# Altium schematic symbol library SCH_lib.SchLib: 10 symbols
Pins are listed as number, name and electrical type; pins without a type are passive.

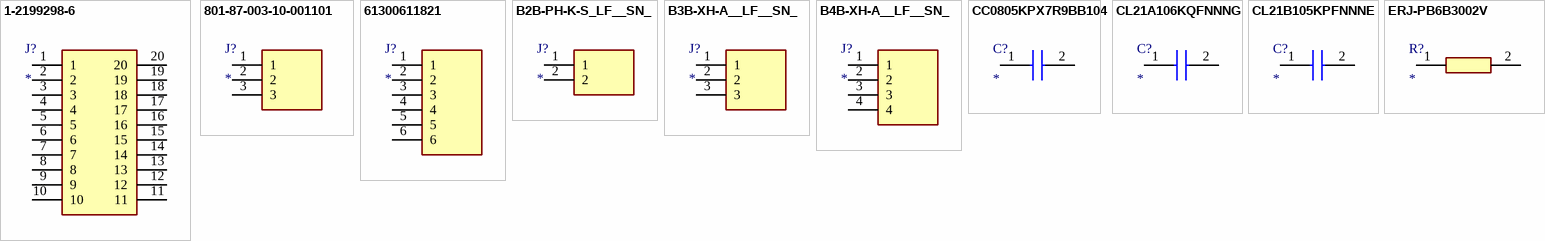
[diagram p0: symbols 1-2199298-6 to ERJ-PB6B3002V]

## 1-2199298-6
designator J?
Connector; Manufacturer_Name: TE Connectivity; Manufacturer_Part_Number: 1-2199298-6; Description: TE Connectivity 2.54mm Pitch Straight 20 Way; Datasheet Link: https://www.te.com/commerce/DocumentDelivery/DDEController?Action=showdoc&DocId=Customer+Drawing%7F2199298%7FA%7Fpdf%7FEnglish%7FENG_CD_2199298_A_baseFilename.pdf%7F1-2199298-6; Height: 5.1mm; Mouser Part Number: 571-1-2199298-6; Mouser Price/Stock: https://www.mouser.co.uk/ProductDetail/TE-Connectivity/1-2199298-6?qs=fK8dlpkaUMvuMXpJTs4GlA%3D%3D; Arrow Part Number: 1-2199298-6; Arrow Price/Stock: https://www.arrow.com/en/products/1-2199298-6/te-connectivity?region=europe
footprint DIPS762W70P254L2540H510Q20N
pins: 1, 2, 3, 4, 5, 6, 7, 8, 9, 10, 11, 12, 13, 14, 15, 16, 17, 18, 19, 20

## 801-87-003-10-001101
designator J?
Connector; Manufacturer_Name: Preci-Dip; Manufacturer_Part_Number: 801-87-003-10-001101; Description: Preci-Dip Straight 2.54mm 3 Way Through Hole SIL Socket; Datasheet Link: http://www.precidip.com/en/Products/PCB-Connectors/pview/801-PP-NNN-10-001101.html; Height: 7mm; Mouser Part Number: 437-8018700310001101; Mouser Price/Stock: https://www.mouser.co.uk/ProductDetail/Preci-dip/801-87-003-10-001101?qs=FtMuP6KVi2T66jAxB5rZkg%3D%3D; Arrow Part Number: 801-87-003-10-001101; Arrow Price/Stock: https://www.arrow.com/en/products/801-87-003-10-001101/preci-dip-sa
footprint RHDR3W60P0X254_1X3_762X254X700P
pins: 1, 2, 3

## 61300611821
designator J?
Connector; Manufacturer_Name: Wurth Elektronik; Manufacturer_Part_Number: 61300611821; Description: WURTH ELEKTRONIK - 61300611821 - PCB Receptacle; Datasheet Link: https://www.we-online.de/katalog/datasheet/61300611821.pdf; Height: 8.65mm; Mouser Part Number: 710-61300611821; Mouser Price/Stock: https://www.mouser.co.uk/ProductDetail/Wurth-Elektronik/61300611821?qs=iLbezkQI%252BsgS21jF2eozhA%3D%3D
footprint RHDR6W97P0X254_1X6_1574X250X865P
pins: 1, 2, 3, 4, 5, 6

## B2B-PH-K-S_LF__SN_
designator J?
Connector; Manufacturer_Name: JST (JAPAN SOLDERLESS TERMINALS); Manufacturer_Part_Number: B2B-PH-K-S(LF)(SN); Description: Conn Shrouded Header HDR 2 POS 2mm Solder ST Thru-Hole Box; Datasheet Link: https://datasheet.lcsc.com/szlcsc/JST-Sales-America-B2B-PH-K-S-LF-SN_C131337.pdf; Height: 6mm; Arrow Part Number: B2B-PH-K-S(LF)(SN); Arrow Price/Stock: https://www.arrow.com/en/products/b2b-ph-k-s-lf-sn/jst-manufacturing?region=europe
footprint SHDR2W50P0X200_1X2_590X450X600P
pins: 1, 2

## B3B-XH-A__LF__SN_
designator J?
Connector; Manufacturer_Name: JST (JAPAN SOLDERLESS TERMINALS); Manufacturer_Part_Number: B3B-XH-A (LF)(SN); Description: JST (JAPAN SOLDERLESS TERMINALS) - B3B-XH-A (LF)(SN) - HEADER; Datasheet Link: http://www.jst-mfg.com/product/pdf/eng/eXH.pdf; Height: 7mm
footprint SHDR3W64P0X250_1X3_990X575X700P
pins: 1, 2, 3

## B4B-XH-A__LF__SN_
designator J?
Connector; Manufacturer_Name: JST (JAPAN SOLDERLESS TERMINALS); Manufacturer_Part_Number: B4B-XH-A (LF)(SN); Description: JST (JAPAN SOLDERLESS TERMINALS) - B4B-XH-A (LF)(SN) - HEADER; Datasheet Link: https://componentsearchengine.com/Datasheets/2/B4B-XH-A (LF)(SN).pdf; Height: 7mm; Arrow Part Number: B4B-XH-A (LF)(SN); Arrow Price/Stock: https://www.arrow.com/en/products/b4b-xh-a-lf-sn/jst-manufacturing?region=europe
footprint SHDR4W64P0X250_1X4_1240X575X700P
pins: 1, 2, 3, 4

## CC0805KPX7R9BB104
designator C?
Capacitor; Manufacturer_Name: YAGEO; Manufacturer_Part_Number: CC0805KPX7R9BB104; Description: Multilayer Ceramic Capacitors MLCC - SMD/SMT 50 V 0.1uF X7R 0805 10%; Datasheet Link: https://www.yageo.com/upload/media/product/productsearch/datasheet/mlcc/UPY-GPHC_X7R_6.3V-to-250V_22.pdf; Height: 0.95mm; Mouser Part Number: 603-CC805KPX7R9BB104; Mouser Price/Stock: https://www.mouser.co.uk/ProductDetail/YAGEO/CC0805KPX7R9BB104?qs=vTakOoo5QyLPWGiom%252Bf2Ug%3D%3D
footprint CAPC2012X95N
pins: 1, 2

## CL21A106KQFNNNG
designator C?
Capacitor; Manufacturer_Name: SAMSUNG; Manufacturer_Part_Number: CL21A106KQFNNNG; Description: Samsung Electro-Mechanics 0805 (2012M) 10uF Multilayer Ceramic Capacitor MLCC 6.3V dc +/-10% SMD CL21A106KQFNNNG; Datasheet Link: https://octopart.com/cl21a106kpfnnne-samsung-9301557?gclid=EAIaIQobChMIppmoo53d5wIV14XVCh0LRA8uEAAYAiAAEgJJyPD_BwE; Height: 1.35mm; Mouser Part Number: 187-CL21A106KQFNNNG; Mouser Price/Stock: https://www.mouser.co.uk/ProductDetail/Samsung-Electro-Mechanics/CL21A106KQFNNNG?qs=hqM3L16%252Bxle4yU%252BqidqWig%3D%3D; Arrow Part Number: CL21A106KQFNNNG; Arrow Price/Stock: https://www.arrow.com/en/products/cl21a106kqfnnng/samsung-electro-mechanics?region=nac
footprint CAPC2012X135N
pins: 1, 2

## CL21B105KPFNNNE
designator C?
Capacitor; Manufacturer_Name: SAMSUNG; Manufacturer_Part_Number: CL21B105KPFNNNE; Description: Cap Ceramic 1uF 10V X7R 10% Pad SMD 0805 125C Low ESR T/R; Datasheet Link: https://datasheet.datasheetarchive.com/originals/distributors/Datasheets_SAMA/2d87a2a5c85914a1c305fff6363ab8b8.pdf; Height: 1.35mm; Mouser Part Number: 187-CL21B105KPFNNNE; Mouser Price/Stock: https://www.mouser.co.uk/ProductDetail/Samsung-Electro-Mechanics/CL21B105KPFNNNE?qs=349EhDEZ59rb3V94UrmRdQ%3D%3D; Arrow Part Number: CL21B105KPFNNNE; Arrow Price/Stock: https://www.arrow.com/en/products/cl21b105kpfnnne/samsung-electro-mechanics?region=nac
footprint CAPC2012X135N
pins: 1, 2

## ERJ-PB6B3002V
designator R?
Resistor; Manufacturer_Name: Panasonic; Manufacturer_Part_Number: ERJ-PB6B3002V; Description: Thick Film Resistors - SMD 0805 Anti-Surge Res. 0.1%; Datasheet Link: https://componentsearchengine.com/Datasheets/1/ERJ-PB6B3002V.pdf; Height: 0.7mm; Mouser Part Number: 667-ERJ-PB6B3002V; Mouser Price/Stock: https://www.mouser.co.uk/ProductDetail/Panasonic/ERJ-PB6B3002V?qs=eFOtW6xYNWHxFAxx7HWdpg%3D%3D; Arrow Part Number: ERJ-PB6B3002V; Arrow Price/Stock: https://www.arrow.com/en/products/erj-pb6b3002v/panasonic?region=nac
footprint RESC2012X70N
pins: 1, 2